# EAGLE library part 8880_DTMF (library john)
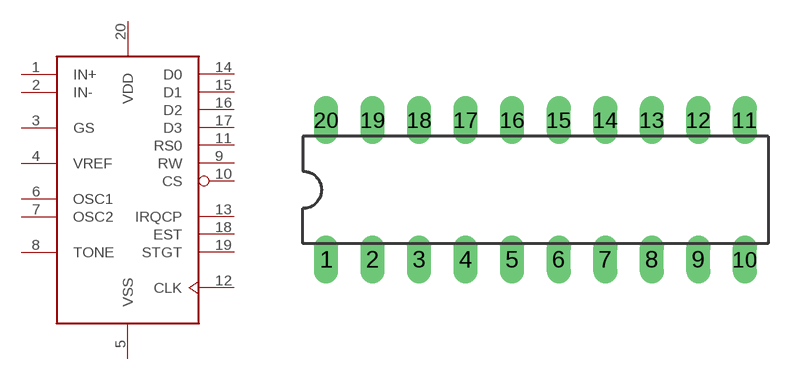
[diagram p7: symbol with the pads of DIL20; footprint DIL20]

Designator prefix -

## 8880_DTMF  [DIL20]
1  IN+  in
2  IN-  in
3  GS
4  VREF
5  VSS  pwr
6  OSC1
7  OSC2
8  TONE  out
9  RW  in
10  CS  in
11  RS0  in
12  CLK  in
13  IRQCP  out
14  D0
15  D1
16  D2
17  D3
18  EST  out
19  STGT
20  VDD  pwr

## Footprint DIL20 (pad centres in mm)
Dual In Line Package
drill 0.813 long: 1 -11.43,-3.81; 2 -8.89,-3.81; 3 -6.35,-3.81; 4 -3.81,-3.81; 5 -1.27,-3.81; 6 1.27,-3.81; 7 3.81,-3.81; 8 6.35,-3.81; 9 8.89,-3.81; 10 11.43,-3.81; 11 11.43,3.81; 12 8.89,3.81; 13 6.35,3.81; 14 3.81,3.81; 15 1.27,3.81; 16 -1.27,3.81; 17 -3.81,3.81; 18 -6.35,3.81; 19 -8.89,3.81; 20 -11.43,3.81